# Altium schematic symbol library PTS636_SK43_SMTR_LFS.SchLib: 1 symbol
Pins are listed as number, name and electrical type; pins without a type are passive.

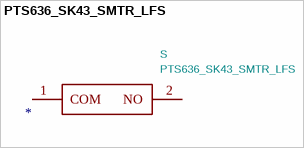
[diagram p0: symbol PTS636_SK43_SMTR_LFS]

## PTS636_SK43_SMTR_LFS
designator S  value PTS636_SK43_SMTR_LFS
Tactile Switches Tact 50mA 12VDC, 6.0x3.5, 4.3mm H, 250gf, G leads, No ground pin, Black Actuator; Manufacturer_Name: C & K COMPONENTS; Manufacturer_Part_Number: PTS636 SK43 SMTR LFS; Footprint: PTS636SK43SMTRLFS; Supplier: https://componentsearchengine.com/Datasheets/1/PTS636 SK43 SMTR LFS.pdf; Description_: Tactile Switches Tact 50mA 12VDC, 6.0x3.5, 4.3mm H, 250gf, G leads, No ground pin, Black Actuator; Height: 4.5; Mouser Part Number: 611-PTS636SK43SMTRLF; Mouser Price/Stock: https://www.mouser.com/Search/Refine.aspx?Keyword=611-PTS636SK43SMTRLF
footprint PTS636SK43SMTRLFS
pins: 1 COM, 2 NO